# Altium footprint library Seeed-OPL-Connector.PCBLIB: 183 footprints (part 9 of 12)
Each footprint in its own frame and in the unit in brackets; x right, y up, seen from the top. Pads: shape width x height; smd on the part's side, far side on the other; paste and mask are expansions set on the pad; w line width, h text height; cw(c..) or ccw(c..) is an arc to the next point about the centre after c.
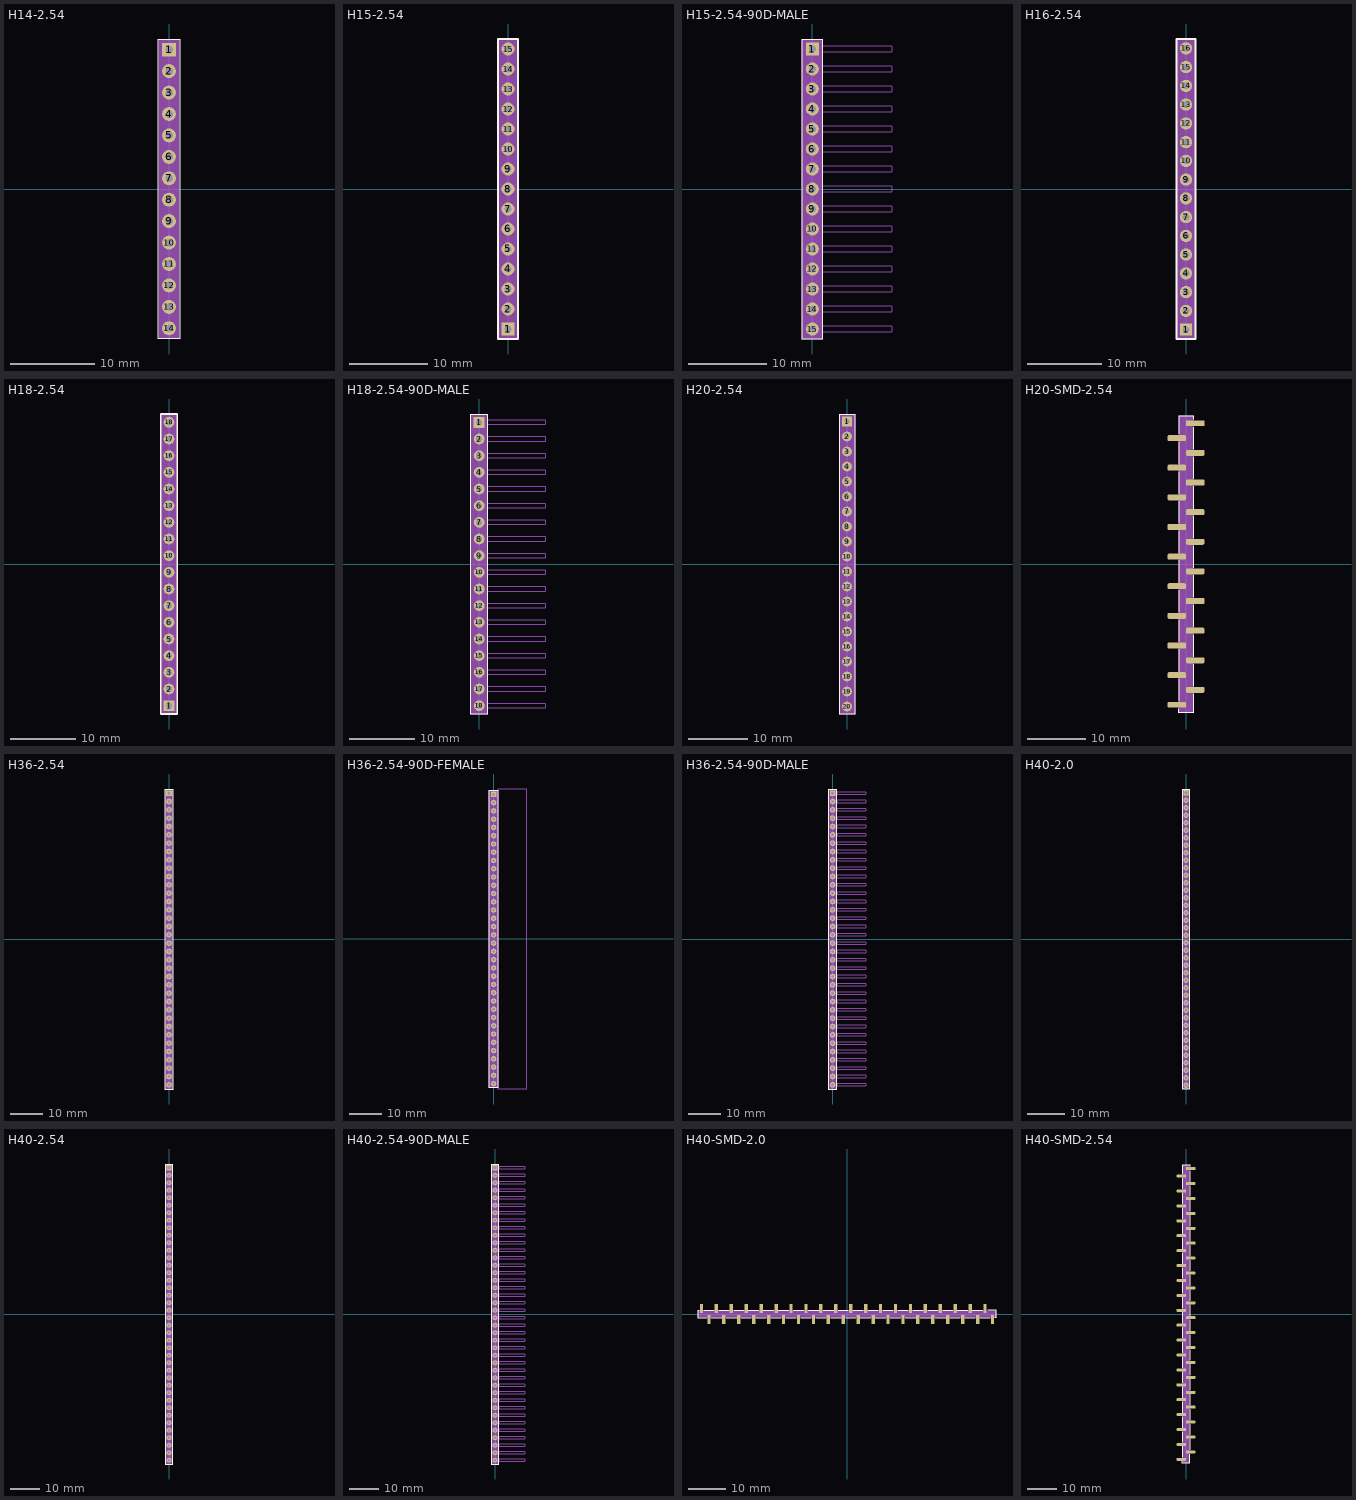
[diagram p8: the footprints below, top view; thin cyan lines are the x and y axes]

## H14-2.54 [mil]
pads (14):
  rect 65x65 hole 35: 1(0,650)
  round 65 hole 35: 2(0,550) 3(0,450) 4(0,350) 5(0,250) 6(0,150) 7(0,50) 8(0,-50) 9(0,-150) 10(0,-250) 11(0,-350) 12(0,-450) 13(0,-550) 14(0,-650)
Top Overlay:
  lines w5: -50,-700 50,-700 50,700 -50,700 -50,-700
Mechanical 27:
  rectangle: -50,-700 50,700

## H15-2.54 [mil]
pads (15):
  rect 65x65 hole 35: 1(0,-700)
  round 65 hole 35: 2(0,-600) 3(0,-500) 4(0,-400) 5(0,-300) 6(0,-200) 7(0,-100) 8(0,0) 9(0,100) 10(0,200) 11(0,300) 12(0,400) 13(0,500) 14(0,600) 15(0,700)
Top Overlay:
  lines w10: -50,-750 -50,750 50,750 50,-750 -50,-750
Mechanical 27:
  region: 50,-750 50,750 -50,750 -50,-750

## H15-2.54-90D-MALE [mil]
pads (15):
  rect 65x65 hole 35: 1(0,700)
  round 65 hole 35: 2(0,600) 3(0,500) 4(0,400) 5(0,300) 6(0,200) 7(0,100) 8(0,0) 9(0,-100) 10(0,-200) 11(0,-300) 12(0,-400) 13(0,-500) 14(0,-600) 15(0,-700)
Top Overlay:
  lines w5: -50,-750 50,-750 50,750 -50,750 -50,-750
Mechanical 14:
  lines w5: 50,-712.6 396.06,-712.6 396.06,-687.4 50,-687.4 ; 50,-612.6 396.06,-612.6 396.06,-587.4 50,-587.4 ; 50,-512.6 396.06,-512.6 396.06,-487.4 50,-487.4 ; 50,-412.6 396.06,-412.6 396.06,-387.4 50,-387.4 ; 50,-312.6 396.06,-312.6 396.06,-287.4 50,-287.4 ; 50,-212.6 50,-187.4 396.06,-187.4 396.06,-212.6 50,-212.6 ; 50,-112.6 50,-87.4 396.06,-87.4 396.06,-112.6 50,-112.6 ; 50,-12.6 50,12.6 396.06,12.6 396.06,-12.6 50,-12.6 ; 50,87.4 50,112.6 396.06,112.6 396.06,87.4 50,87.4 ; 50,187.4 50,212.6 396.06,212.6 396.06,187.4 50,187.4 ; 50,287.4 50,312.6 396.06,312.6 396.06,287.4 50,287.4 ; 50,387.4 50,412.6 396.06,412.6 396.06,387.4 50,387.4 ; 50,487.4 50,512.6 396.06,512.6 396.06,487.4 50,487.4 ; 50,587.4 50,612.6 396.06,612.6 396.06,587.4 50,587.4 ; 50,687.4 50,712.6 396.06,712.6 396.06,687.4 50,687.4
Mechanical 27:
  rectangle: -50,-750 50,750
  lines w0: -50,-750 50,-750 50,750 -50,750 -50,-750

## H16-2.54 [mil]
pads (16):
  rect 65x65 hole 35: 1(0,-750)
  round 65 hole 35: 2(0,-650) 3(0,-550) 4(0,-450) 5(0,-350) 6(0,-250) 7(0,-150) 8(0,-50) 9(0,50) 10(0,150) 11(0,250) 12(0,350) 13(0,450) 14(0,550) 15(0,650) 16(0,750)
Top Overlay:
  lines w8: -25,-800 25,-800 ; -25,800 25,800
  lines w10: -50,-800 50,-800 50,800 -50,800 -50,-800
Mechanical 27:
  region: 50,-800 50,800 -50,800 -50,-800

## H18-2.54 [mil]
pads (18):
  rect 65x65 hole 35: 1(0,-850)
  round 65 hole 35: 2(0,-750) 3(0,-650) 4(0,-550) 5(0,-450) 6(0,-350) 7(0,-250) 8(0,-150) 9(0,-50) 10(0,50) 11(0,150) 12(0,250) 13(0,350) 14(0,450) 15(0,550) 16(0,650) 17(0,750) 18(0,850)
Top Overlay:
  lines w8: -25,-900 25,-900
  lines w10: -50,-900 50,-900 50,900 -50,900 -50,-900
Mechanical 27:
  rectangle: -50,-900 50,900

## H18-2.54-90D-MALE [mil]
pads (18):
  rect 65x65 hole 35: 1(0,850)
  round 65 hole 35: 2(0,750) 3(0,650) 4(0,550) 5(0,450) 6(0,350) 7(0,250) 8(0,150) 9(0,50) 10(0,-50) 11(0,-150) 12(0,-250) 13(0,-350) 14(0,-450) 15(0,-550) 16(0,-650) 17(0,-750) 18(0,-850)
Top Overlay:
  lines w5: -50,-900 50,-900 50,900 -50,900 -50,-900
Mechanical 14:
  lines w5: 50,-862.6 396.06,-862.6 396.06,-837.4 50,-837.4 ; 50,-762.6 396.06,-762.6 396.06,-737.4 50,-737.4 ; 50,-662.6 396.06,-662.6 396.06,-637.4 50,-637.4 ; 50,-562.6 396.06,-562.6 396.06,-537.4 50,-537.4 ; 50,-462.6 396.06,-462.6 396.06,-437.4 50,-437.4 ; 50,-362.6 396.06,-362.6 396.06,-337.4 50,-337.4 ; 50,-262.6 396.06,-262.6 396.06,-237.4 50,-237.4 ; 50,-162.6 396.06,-162.6 396.06,-137.4 50,-137.4 ; 50,-62.6 50,-37.4 396.06,-37.4 396.06,-62.6 50,-62.6 ; 50,37.4 50,62.6 396.06,62.6 396.06,37.4 50,37.4 ; 50,137.4 50,162.6 396.06,162.6 396.06,137.4 50,137.4 ; 50,237.4 50,262.6 396.06,262.6 396.06,237.4 50,237.4 ; 50,337.4 50,362.6 396.06,362.6 396.06,337.4 50,337.4 ; 50,437.4 50,462.6 396.06,462.6 396.06,437.4 50,437.4 ; 50,537.4 50,562.6 396.06,562.6 396.06,537.4 50,537.4 ; 50,637.4 50,662.6 396.06,662.6 396.06,637.4 50,637.4 ; 50,737.4 50,762.6 396.06,762.6 396.06,737.4 50,737.4 ; 50,837.4 50,862.6 396.06,862.6 396.06,837.4 50,837.4
Mechanical 27:
  rectangle: -50,-900 50,900
  lines w0: -50,-900 50,-900 50,900 -50,900 -50,-900

## H20-2.54 [mil]
pads (20):
  rect 65x65 hole 35: 1(0,950)
  round 65 hole 35: 2(0,850) 3(0,750) 4(0,650) 5(0,550) 6(0,450) 7(0,350) 8(0,250) 9(0,150) 10(0,50) 11(0,-50) 12(0,-150) 13(0,-250) 14(0,-350) 15(0,-450) 16(0,-550) 17(0,-650) 18(0,-750) 19(0,-850) 20(0,-950)
Top Overlay:
  lines w5: -50,-1000 50,-1000 50,1000 -50,1000 -50,-1000
Mechanical 27:
  rectangle: -50,-1000 50,1000
  lines w0: -50,-1000 50,-1000 50,1000 -50,1000 -50,-1000

## H20-SMD-2.54 [mil]
pads (20):
  rect 124.8x40.16 smd: 1(62.4,950)
  rrect50% 124.8x40.16 smd: 2(-62.4,850) 3(62.4,750) 4(-62.4,650) 5(62.4,550) 6(-62.4,450) 7(62.4,350) 8(-62.4,250) 9(62.4,150) 10(-62.4,50) 11(62.4,-50) 12(-62.4,-150) 13(62.4,-250) 14(-62.4,-350) 15(62.4,-450) 16(-62.4,-550) 17(62.4,-650) 18(-62.4,-750) 19(62.4,-850) 20(-62.4,-950)
Top Overlay:
  lines w5: -50,-976.38 -50,-1003.94 50,-1003.94 50,-875.98 ; -50,-925.98 -50,-775.98 ; -50,-725.98 -50,-575.98 ; -50,-525.98 -50,-375.98 ; -50,-325.98 -50,-175.98 ; -50,-125.98 -50,24.02 ; -50,74.02 -50,224.02 ; -50,274.02 -50,424.02 ; -50,474.02 -50,624.02 ; -50,674.02 -50,824.02 ; -50,877.95 -50,1000 50,1000 50,976.38 ; 50,-825.98 50,-675.98 ; 50,-625.98 50,-475.98 ; 50,-425.98 50,-275.98 ; 50,-225.98 50,-75.98 ; 50,-25.98 50,124.02 ; 50,174.02 50,324.02 ; 50,374.02 50,524.02 ; 50,574.02 50,724.02 ; 50,774.02 50,924.02
Mechanical 27:
  rectangle: -50,-1001.18 50,1001.18

## H36-2.54 [mm]
pads (36):
  rect 1.7x1.7 hole 1: 1(0,44.45)
  round 1.7 hole 1: 2(0,41.91) 3(0,39.37) 4(0,36.83) 5(0,34.29) 6(0,31.75) 7(0,29.21) 8(0,26.67) 9(0,24.13) 10(0,21.59) 11(0,19.05) 12(0,16.51) 13(0,13.97) 14(0,11.43) 15(0,8.89) 16(0,6.35) 17(0,3.81) 18(0,1.27) 19(0,-1.27) 20(0,-3.81) 21(0,-6.35) 22(0,-8.89) 23(0,-11.43) 24(0,-13.97) 25(0,-16.51) 26(0,-19.05) 27(0,-21.59) 28(0,-24.13) 29(0,-26.67) 30(0,-29.21) 31(0,-31.75) 32(0,-34.29) 33(0,-36.83) 34(0,-39.37) 35(0,-41.91) 36(0,-44.45)
Top Overlay:
  lines w0.127: -1.27,-45.72 -1.27,45.72 1.27,45.72 1.27,-45.72 -1.27,-45.72
Mechanical 27:
  rectangle: -1.27,-45.72 1.27,45.72

## H36-2.54-90D-FEMALE [mil]
pads (36):
  rect 65x65 hole 35: 1(0,1750)
  round 65 hole 35: 2(0,1650) 3(0,1550) 4(0,1450) 5(0,1350) 6(0,1250) 7(0,1150) 8(0,1050) 9(0,950) 10(0,850) 11(0,750) 12(0,650) 13(0,550) 14(0,450) 15(0,350) 16(0,250) 17(0,150) 18(0,50) 19(0,-50) 20(0,-150) 21(0,-250) 22(0,-350) 23(0,-450) 24(0,-550) 25(0,-650) 26(0,-750) 27(0,-850) 28(0,-950) 29(0,-1050) 30(0,-1150) 31(0,-1250) 32(0,-1350) 33(0,-1450) 34(0,-1550) 35(0,-1650) 36(0,-1750)
Top Overlay:
  lines w5: -50,-1800 50,-1800 50,1800 -50,1800 -50,-1800
Mechanical 14:
  lines w5: 50,1299.76 50,-1815 398.43,-1815 398.43,1299.76 ; 50,1300 50,1814.76 398.43,1814.76 398.43,1300
Mechanical 27:
  rectangle: -50,-1800 50,1800
  lines w0: -50,-1800 50,-1800 50,1800 -50,1800 -50,-1800

## H36-2.54-90D-MALE [mm]
pads (36):
  rect 1.7x1.7 hole 1: 1(0,44.45)
  round 1.7 hole 1: 2(0,41.91) 3(0,39.37) 4(0,36.83) 5(0,34.29) 6(0,31.75) 7(0,29.21) 8(0,26.67) 9(0,24.13) 10(0,21.59) 11(0,19.05) 12(0,16.51) 13(0,13.97) 14(0,11.43) 15(0,8.89) 16(0,6.35) 17(0,3.81) 18(0,1.27) 19(0,-1.27) 20(0,-3.81) 21(0,-6.35) 22(0,-8.89) 23(0,-11.43) 24(0,-13.97) 25(0,-16.51) 26(0,-19.05) 27(0,-21.59) 28(0,-24.13) 29(0,-26.67) 30(0,-29.21) 31(0,-31.75) 32(0,-34.29) 33(0,-36.83) 34(0,-39.37) 35(0,-41.91) 36(0,-44.45)
Top Overlay:
  lines w0.127: -1.27,-45.72 -1.27,45.72 1.27,45.72 1.27,-45.72 -1.27,-45.72
Mechanical 14:
  lines w0.127: 1.27,-44.77 1.27,-44.13 10.06,-44.13 10.06,-44.77 1.27,-44.77 ; 1.27,-42.23 1.27,-41.59 10.06,-41.59 10.06,-42.23 1.27,-42.23 ; 1.27,-39.69 1.27,-39.05 10.06,-39.05 10.06,-39.69 1.27,-39.69 ; 1.27,-37.15 1.27,-36.51 10.06,-36.51 10.06,-37.15 1.27,-37.15 ; 1.27,-34.61 1.27,-33.97 10.06,-33.97 10.06,-34.61 1.27,-34.61 ; 1.27,-32.07 1.27,-31.43 10.06,-31.43 10.06,-32.07 1.27,-32.07 ; 1.27,-29.53 1.27,-28.89 10.06,-28.89 10.06,-29.53 1.27,-29.53 ; 1.27,-26.99 1.27,-26.35 10.06,-26.35 10.06,-26.99 1.27,-26.99 ; 1.27,-24.45 1.27,-23.81 10.06,-23.81 10.06,-24.45 1.27,-24.45 ; 1.27,-21.91 1.27,-21.27 10.06,-21.27 10.06,-21.91 1.27,-21.91 ; 1.27,-19.37 1.27,-18.73 10.06,-18.73 10.06,-19.37 1.27,-19.37 ; 1.27,-16.83 1.27,-16.19 10.06,-16.19 10.06,-16.83 1.27,-16.83 ; 1.27,-14.29 1.27,-13.65 10.06,-13.65 10.06,-14.29 1.27,-14.29 ; 1.27,-11.75 1.27,-11.11 10.06,-11.11 10.06,-11.75 1.27,-11.75 ; 1.27,-9.21 1.27,-8.57 10.06,-8.57 10.06,-9.21 1.27,-9.21 ; 1.27,-6.67 1.27,-6.03 10.06,-6.03 10.06,-6.67 1.27,-6.67 ; 1.27,-4.13 1.27,-3.49 10.06,-3.49 10.06,-4.13 1.27,-4.13 ; 1.27,-1.59 1.27,-0.95 10.06,-0.95 10.06,-1.59 1.27,-1.59 ; 1.27,0.95 1.27,1.59 10.06,1.59 10.06,0.95 1.27,0.95 ; 1.27,3.49 1.27,4.13 10.06,4.13 10.06,3.49 1.27,3.49 ; 1.27,6.03 1.27,6.67 10.06,6.67 10.06,6.03 1.27,6.03 ; 1.27,8.57 1.27,9.21 10.06,9.21 10.06,8.57 1.27,8.57 ; 1.27,11.11 1.27,11.75 10.06,11.75 10.06,11.11 1.27,11.11 ; 1.27,13.65 1.27,14.29 10.06,14.29 10.06,13.65 1.27,13.65 ; 1.27,16.19 1.27,16.83 10.06,16.83 10.06,16.19 1.27,16.19 ; 1.27,18.73 1.27,19.37 10.06,19.37 10.06,18.73 1.27,18.73 ; 1.27,21.27 1.27,21.91 10.06,21.91 10.06,21.27 1.27,21.27 ; 1.27,23.81 1.27,24.45 10.06,24.45 10.06,23.81 1.27,23.81 ; 1.27,26.35 1.27,26.99 10.06,26.99 10.06,26.35 1.27,26.35 ; 1.27,28.89 1.27,29.53 10.06,29.53 10.06,28.89 1.27,28.89 ; 1.27,31.43 1.27,32.07 10.06,32.07 10.06,31.43 1.27,31.43 ; 1.27,33.97 1.27,34.61 10.06,34.61 10.06,33.97 1.27,33.97 ; 1.27,36.51 1.27,37.15 10.06,37.15 10.06,36.51 1.27,36.51 ; 1.27,39.05 1.27,39.69 10.06,39.69 10.06,39.05 1.27,39.05 ; 1.27,41.59 1.27,42.23 10.06,42.23 10.06,41.59 1.27,41.59 ; 1.27,44.13 1.27,44.77 10.06,44.77 10.06,44.13 1.27,44.13
Mechanical 27:
  rectangle: -1.27,-45.72 1.27,45.72

## H40-2.0 [mil]
pads (40):
  rect 55.12x55.12 hole 31.5: 1(0,1535.43)
  round 55.12 hole 31.5: 2(0,1456.69) 3(0,1377.95) 4(0,1299.21) 5(0,1220.47) 6(0,1141.73) 7(0,1062.99) 8(0,984.25) 9(0,905.51) 10(0,826.77) 11(0,748.03) 12(0,669.29) 13(0,590.55) 14(0,511.81) 15(0,433.07) 16(0,354.33) 17(0,275.59) 18(0,196.85) 19(0,118.11) 20(0,39.37) 21(0,-39.37) 22(0,-118.11) 23(0,-196.85) 24(0,-275.59) 25(0,-354.33) 26(0,-433.07) 27(0,-511.81) 28(0,-590.55) 29(0,-669.29) 30(0,-748.03) 31(0,-826.77) 32(0,-905.51) 33(0,-984.25) 34(0,-1062.99) 35(0,-1141.73) 36(0,-1220.47) 37(0,-1299.21) 38(0,-1377.95) 39(0,-1456.69) 40(0,-1535.43)
Top Overlay:
  lines w5: -39.37,-1574.8 -39.37,1574.8 39.37,1574.8 39.37,-1574.8 -39.37,-1574.8
Mechanical 27:
  rectangle: -39.37,-1574.8 39.37,1574.8

## H40-2.54 [mm]
pads (40):
  rect 1.7x1.7 hole 1: 1(0,49.53)
  round 1.7 hole 1: 2(0,46.99) 3(0,44.45) 4(0,41.91) 5(0,39.37) 6(0,36.83) 7(0,34.29) 8(0,31.75) 9(0,29.21) 10(0,26.67) 11(0,24.13) 12(0,21.59) 13(0,19.05) 14(0,16.51) 15(0,13.97) 16(0,11.43) 17(0,8.89) 18(0,6.35) 19(0,3.81) 20(0,1.27) 21(0,-1.27) 22(0,-3.81) 23(0,-6.35) 24(0,-8.89) 25(0,-11.43) 26(0,-13.97) 27(0,-16.51) 28(0,-19.05) 29(0,-21.59) 30(0,-24.13) 31(0,-26.67) 32(0,-29.21) 33(0,-31.75) 34(0,-34.29) 35(0,-36.83) 36(0,-39.37) 37(0,-41.91) 38(0,-44.45) 39(0,-46.99) 40(0,-49.53)
Top Overlay:
  lines w0.127: -1.27,-50.8 -1.27,50.8 1.27,50.8 1.27,-50.8 -1.27,-50.8
Mechanical 27:
  rectangle: -1.27,-50.8 1.27,50.8

## H40-2.54-90D-MALE [mm]
pads (40):
  rect 1.7x1.7 hole 1: 1(0,49.53)
  round 1.7 hole 1: 2(0,46.99) 3(0,44.45) 4(0,41.91) 5(0,39.37) 6(0,36.83) 7(0,34.29) 8(0,31.75) 9(0,29.21) 10(0,26.67) 11(0,24.13) 12(0,21.59) 13(0,19.05) 14(0,16.51) 15(0,13.97) 16(0,11.43) 17(0,8.89) 18(0,6.35) 19(0,3.81) 20(0,1.27) 21(0,-1.27) 22(0,-3.81) 23(0,-6.35) 24(0,-8.89) 25(0,-11.43) 26(0,-13.97) 27(0,-16.51) 28(0,-19.05) 29(0,-21.59) 30(0,-24.13) 31(0,-26.67) 32(0,-29.21) 33(0,-31.75) 34(0,-34.29) 35(0,-36.83) 36(0,-39.37) 37(0,-41.91) 38(0,-44.45) 39(0,-46.99) 40(0,-49.53)
Top Overlay:
  lines w0.127: -1.27,-50.8 -1.27,50.8 1.27,50.8 1.27,-50.8 -1.27,-50.8
Mechanical 14:
  drawing of 160 lines, arcs and shapes, not listed
Mechanical 27:
  rectangle: -1.27,-50.8 1.27,50.8

## H40-SMD-2.0 [mm]
pads (40):
  rect 0.89x2.4 smd: 1(-39,1.5) 2(-37,-1.5) 3(-35,1.5) 4(-33,-1.5) 5(-31,1.5) 6(-29,-1.5) 7(-27,1.5) 8(-25,-1.5) 9(-23,1.5) 10(-21,-1.5) 11(-19,1.5) 12(-17,-1.5) 13(-15,1.5) 14(-13,-1.5) 15(-11,1.5) 16(-9,-1.5) 17(-7,1.5) 18(-5,-1.5) 19(-3,1.5) 20(-1,-1.5) 21(1,1.5) 22(3,-1.5) 23(5,1.5) 24(7,-1.5) 25(9,1.5) 26(11,-1.5) 27(13,1.5) 28(15,-1.5) 29(17,1.5) 30(19,-1.5) 31(21,1.5) 32(23,-1.5) 33(25,1.5) 34(27,-1.5) 35(29,1.5) 36(31,-1.5) 37(33,1.5) 38(35,-1.5) 39(37,1.5) 40(39,-1.5)
Top Overlay:
  lines w0.127: -39.6,1 -40,1 -40,-1 -37.6,-1 ; -38.4,1 -35.6,1 ; -36.4,-1 -33.6,-1 ; -34.4,1 -31.6,1 ; -32.4,-1 -29.6,-1 ; -30.4,1 -27.6,1 ; -28.4,-1 -25.6,-1 ; -26.4,1 -23.6,1 ; -24.4,-1 -21.6,-1 ; -22.4,1 -19.6,1 ; -20.4,-1 -17.6,-1 ; -18.4,1 -15.6,1 ; -16.4,-1 -13.6,-1 ; -14.4,1 -11.6,1 ; -12.4,-1 -9.6,-1 ; -10.4,1 -7.6,1 ; -8.4,-1 -5.6,-1 ; -6.4,1 -3.6,1 ; -4.4,-1 -1.6,-1 ; -2.4,1 0.4,1 ; -0.4,-1 2.4,-1 ; 1.6,1 4.4,1 ; 3.6,-1 6.4,-1 ; 5.6,1 8.4,1 ; 7.6,-1 10.4,-1 ; 9.6,1 12.4,1 ; 11.6,-1 14.4,-1 ; 13.6,1 16.4,1 ; 15.6,-1 18.4,-1 ; 17.6,1 20.4,1 ; 19.6,-1 22.4,-1 ; 21.6,1 24.4,1 ; 23.6,-1 26.4,-1 ; 25.6,1 28.4,1 ; 27.6,-1 30.4,-1 ; 29.6,1 32.4,1 ; 31.6,-1 34.4,-1 ; 33.6,1 36.4,1 ; 35.6,-1 38.4,-1 ; 37.7,1 40,1 40,-1 39.6,-1
Mechanical 27:
  rectangle: -40,-1 40,1

## H40-SMD-2.54 [mil]
pads (40):
  rect 124.8x40.16 smd: 1(62.4,1950)
  rrect50% 124.8x40.16 smd: 2(-62.4,1850) 3(62.4,1750) 4(-62.4,1650) 5(62.4,1550) 6(-62.4,1450) 7(62.4,1350) 8(-62.4,1250) 9(62.4,1150) 10(-62.4,1050) 11(62.4,950) 12(-62.4,850) 13(62.4,750) 14(-62.4,650) 15(62.4,550) 16(-62.4,450) 17(62.4,350) 18(-62.4,250) 19(62.4,150) 20(-62.4,50) 21(62.4,-50) 22(-62.4,-150) 23(62.4,-250) 24(-62.4,-350) 25(62.4,-450) 26(-62.4,-550) 27(62.4,-650) 28(-62.4,-750) 29(62.4,-850) 30(-62.4,-950) 31(62.4,-1050) 32(-62.4,-1150) 33(62.4,-1250) 34(-62.4,-1350) 35(62.4,-1450) 36(-62.4,-1550) 37(62.4,-1650) 38(-62.4,-1750) 39(62.4,-1850) 40(-62.4,-1950)
Top Overlay:
  lines w5: -50,-2001.18 50,-2001.18 ; -50,-2000 -50,-1968.5 ; -50,-1922.83 -50,-1776.38 ; -50,-1722.83 -50,-1576.38 ; -50,-1522.83 -50,-1376.38 ; -50,-1322.83 -50,-1176.38 ; -50,-1122.83 -50,-976.38 ; -50,-922.83 -50,-776.38 ; -50,-722.83 -50,-576.38 ; -50,-522.83 -50,-376.38 ; -50,-322.83 -50,-176.38 ; -50,-122.83 -50,23.62 ; -50,77.17 -50,223.62 ; -50,277.17 -50,423.62 ; -50,477.17 -50,623.62 ; -50,677.17 -50,823.62 ; -50,877.17 -50,1023.62 ; -50,1077.17 -50,1223.62 ; -50,1277.17 -50,1423.62 ; -50,1477.17 -50,1623.62 ; -50,1677.17 -50,1823.62 ; -50,1881.89 -50,2000 50,2000 50,1981.89 ; 50,-2000 50,-1881.89 ; 50,-1822.83 50,-1676.38 ; 50,-1622.83 50,-1476.38 ; 50,-1422.83 50,-1276.38 ; 50,-1222.83 50,-1076.38 ; 50,-1022.83 50,-876.38 ; 50,-822.83 50,-676.38 ; 50,-622.83 50,-476.38 ; 50,-422.83 50,-276.38 ; 50,-222.83 50,-76.38 ; 50,-22.83 50,123.62 ; 50,177.17 50,323.62 ; 50,377.17 50,523.62 ; 50,577.17 50,723.62 ; 50,777.17 50,923.62 ; 50,977.17 50,1123.62 ; 50,1177.17 50,1323.62 ; 50,1377.17 50,1523.62 ; 50,1577.17 50,1723.62 ; 50,1777.17 50,1923.62
Mechanical 27:
  rectangle: -50,-2001.18 50,2001.18